# Altium footprint library DC309A.PcbLib: 63 footprints (part 4 of 4)
Each footprint in its own frame and in the unit in brackets; x right, y up, seen from the top. Pads: shape width x height; smd on the part's side, far side on the other; paste and mask are expansions set on the pad; w line width, h text height; cw(c..) or ccw(c..) is an arc to the next point about the centre after c.
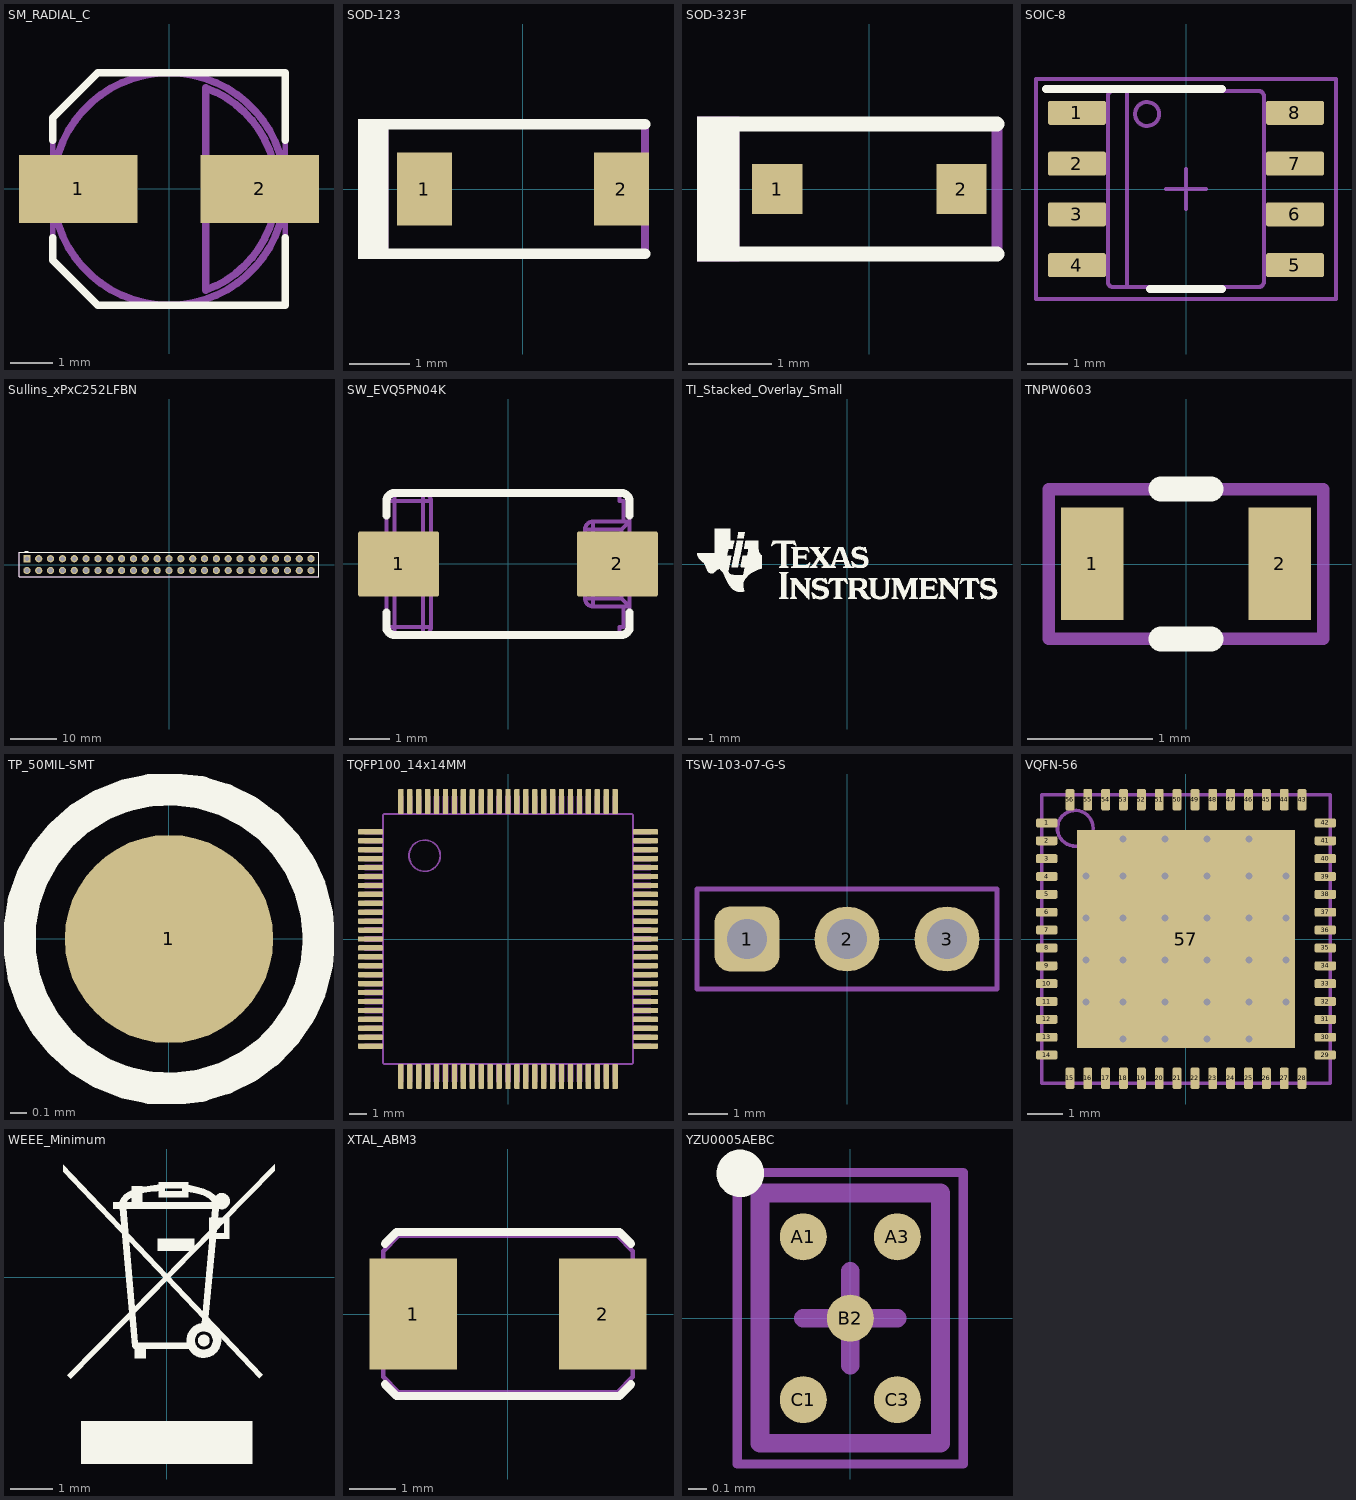
[diagram p3: the footprints below, top view; thin cyan lines are the x and y axes]

## SM_RADIAL_C [mm] "5 x 5.8mm:  Panasonic C"
height 6.1
pads (2):
  rect 2.8x1.6 smd: 1(-2.15,0) 2(2.15,0)
Top Overlay:
  lines w0.178: -2.75,-1.15 -2.75,-1.69 -1.69,-2.75 0,-2.75 2.75,-2.75 2.75,-1.15 ; -2.75,1.15 -2.75,1.69 -1.69,2.75 0,2.75 2.75,2.75 2.75,1.15
Mechanical 5:
  lines w0.127: -2.75,-1.69 -2.75,1.69 -1.69,2.75 0,2.75 2.75,2.75 2.75,-2.75 0,-2.75 -1.69,-2.75 -2.75,-1.69
  text ".Designator" at -1.524,-0.508 h1.02
Mechanical 13:
  circle w0.178: c0,0 r2.75
  lines w0.178: 0.872,-2.395 ccw(c0,0) 0.872,2.395 0.872,-2.395
3D body: height 0.6, standoff 0, extent -2.751,-2.751 2.751,2.751
3D body: height 6.1, standoff 0.6, extent -2.749,-2.749 2.749,2.749
3D body: height 6.1, standoff 6, extent 0.871,-2.396 2.549,2.396

## SOD-123 [mm] "On Semi recommended land pattern"
height 1.35
pads (2):
  rect 0.915x1.22 smd: 1(-1.637,0) 2(1.637,0)
Top Overlay:
  rectangle: -2.743,-1.168 -2.235,1.168
  lines w0.178: -2.413,-1.079 2.032,-1.079 ; -2.413,1.079 2.032,1.079
Mechanical 5:
  rectangle: -2.743,-1.168 -2.235,1.168
  lines w0.127: -2.413,-1.079 2.032,-1.079 2.032,1.079 -2.413,1.079
  text ".Designator" at -1.295,-0.381 h0.76
3D body "SOD-123.stp": height 1.35, standoff 0, extent -1.932,-0.9 1.932,0.9

## SOD-323F [mm] "NXP recommended land pattern"
height 0.8
pads (2):
  rect 0.6x0.6 smd paste+0: 1(-1.1,0) 2(1.1,0)
Top Overlay:
  rectangle: -2.057,-0.864 -1.549,0.864
  lines w0.178: -1.803,-0.775 0.1,-0.775 1.525,-0.775 ; -1.803,0.775 0.1,0.775 1.525,0.775
Mechanical 5:
  rectangle: -2.057,-0.864 -1.549,0.864
  lines w0.127: -1.803,-0.775 0.1,-0.775 1.525,-0.775 1.525,0.775 0.1,0.775 -1.803,0.775
  text ".Designator" at -0.66,-0.347 h0.76
3D body "SOD-323F.stp": height 0.79, standoff -0.08, extent -1.35,-0.675 1.35,0.675

## SOIC-8 [mm] "duplicate of SO-8.  SOIC, 8-Leads, Body 5.0x4.0mm (max), Pitch 1.27mm, IPC Medium Density"
height 1.75
pads (8):
  rrect17% 1.45x0.6 smd: 1(-2.725,1.905) 2(-2.725,0.635) 3(-2.725,-0.635) 4(-2.725,-1.905) 5(2.725,-1.905) 6(2.725,-0.635) 7(2.725,0.635) 8(2.725,1.905)
Top Overlay:
  lines w0.2: -3.5,2.5 0.9,2.5 ; -0.9,-2.5 0.9,-2.5
Mechanical 5:
  circle w0.1: c-0.975,1.875 r0.3
  lines w0.1: -1.475,-2.45 -1.475,2.45 ; -2.375,-2.095 -1.995,-2.095 -1.952,-2.095 -1.952,-1.715 -1.995,-1.715 -2.375,-1.715 ; -2.375,-2.095 -2.589,-2.095 -3.002,-2.095 -3.002,-1.715 -2.589,-1.715 -2.375,-1.715 ; -2.375,-2.095 -2.375,-1.715 ; -2.375,-0.825 -1.995,-0.825 -1.952,-0.825 -1.952,-0.445 -1.995,-0.445 -2.375,-0.445 ; -2.375,-0.825 -2.589,-0.825 -3.002,-0.825 -3.002,-0.445 -2.589,-0.445 -2.375,-0.445 ; -2.375,-0.825 -2.375,-0.445 ; -2.375,0.445 -1.995,0.445 -1.952,0.445 -1.952,0.825 -1.995,0.825 -2.375,0.825 ; -2.375,0.445 -2.589,0.445 -3.002,0.445 -3.002,0.825 -2.589,0.825 -2.375,0.825 ; -2.375,0.445 -2.375,0.825 ; -2.375,1.715 -1.995,1.715 -1.952,1.715 -1.952,2.095 -1.995,2.095 -2.375,2.095 ; -2.375,1.715 -2.589,1.715 -3.002,1.715 -3.002,2.095 -2.589,2.095 -2.375,2.095 ; -2.375,1.715 -2.375,2.095 ; -0.332,-2.45 -1.825,-2.45 -1.826,-2.45 cw(c-1.825,-2.323) -1.952,-2.324 -1.952,-2.323 -1.952,2.323 -1.952,2.324 cw(c-1.825,2.323) -1.826,2.45 -1.825,2.45 -0.332,2.45 ; -0.332,-2.45 -0.182,-2.45 ; -0.332,-2.45 -0.182,-2.45 ; -0.332,2.45 -0.182,2.45 ; -0.332,2.45 -0.182,2.45 ; -0.182,-2.45 0.178,-2.45 ; -0.182,2.45 0.178,2.45 ; 0.178,-2.45 0.328,-2.45 ; 0.178,-2.45 0.328,-2.45 ; 0.178,2.45 0.328,2.45 ; 0.178,2.45 0.328,2.45 ; 0.328,-2.45 1.821,-2.45 1.822,-2.45 ccw(c1.821,-2.323) 1.948,-2.324 1.948,-2.323 1.948,2.323 1.948,2.324 ccw(c1.821,2.323) 1.822,2.45 1.821,2.45 0.328,2.45 ; 2.371,-2.095 2.585,-2.095 2.998,-2.095 2.998,-1.715 2.585,-1.715 2.371,-1.715 ; 2.371,-2.095 1.991,-2.095 1.948,-2.095 1.948,-1.715 1.991,-1.715 2.371,-1.715 ; 2.371,-2.095 2.371,-1.715 ; 2.371,-0.825 2.585,-0.825 2.998,-0.825 2.998,-0.445 2.585,-0.445 2.371,-0.445 ; 2.371,-0.825 1.991,-0.825 1.948,-0.825 1.948,-0.445 1.991,-0.445 2.371,-0.445 ; 2.371,-0.825 2.371,-0.445 ; 2.371,0.445 2.585,0.445 2.998,0.445 2.998,0.825 2.585,0.825 2.371,0.825 ; 2.371,0.445 1.991,0.445 1.948,0.445 1.948,0.825 1.991,0.825 2.371,0.825 ; 2.371,0.445 2.371,0.825 ; 2.371,1.715 2.585,1.715 2.998,1.715 2.998,2.095 2.585,2.095 2.371,2.095 ; 2.371,1.715 1.991,1.715 1.948,1.715 1.948,2.095 1.991,2.095 2.371,2.095 ; 2.371,1.715 2.371,2.095
  text ".Designator" at 0.629,-0.908 h0.89
Mechanical 15:
  lines w0.1: -0.5,0 0.5,0 ; 0,-0.5 0,0.5 ; -3.75,-2.75 3.75,-2.75 3.75,2.75 -3.75,2.75 -3.75,-2.75
3D body "SOIC-8akaD0008AakaM08A.stp": height 1.63, standoff 0, extent -3,-2.45 3,2.45

## Sullins_xPxC252LFBN [mm] "Receptacle, 2.54mm, 25x2, TH"
height 8.65
pads (50):
  rect 1.55x1.55 hole 1.02: 1(-30.48,1.27)
  round 1.55 hole 1.02: 2(-30.48,-1.27) 3(-27.94,1.27) 4(-27.94,-1.27) 5(-25.4,1.27) 6(-25.4,-1.27) 7(-22.86,1.27) 8(-22.86,-1.27) 9(-20.32,1.27) 10(-20.32,-1.27) 11(-17.78,1.27) 12(-17.78,-1.27) 13(-15.24,1.27) 14(-15.24,-1.27) 15(-12.7,1.27) 16(-12.7,-1.27) 17(-10.16,1.27) 18(-10.16,-1.27) 19(-7.62,1.27) 20(-7.62,-1.27) 21(-5.08,1.27) 22(-5.08,-1.27) 23(-2.54,1.27) 24(-2.54,-1.27) 25(0,1.27) 26(0,-1.27) 27(2.54,1.27) 28(2.54,-1.27) 29(5.08,1.27) 30(5.08,-1.27) 31(7.62,1.27) 32(7.62,-1.27) 33(10.16,1.27) 34(10.16,-1.27) 35(12.7,1.27) 36(12.7,-1.27) 37(15.24,1.27) 38(15.24,-1.27) 39(17.78,1.27) 40(17.78,-1.27) 41(20.32,1.27) 42(20.32,-1.27) 43(22.86,1.27) 44(22.86,-1.27) 45(25.4,1.27) 46(25.4,-1.27) 47(27.94,1.27) 48(27.94,-1.27) 49(30.48,1.27) 50(30.48,-1.27)
Top Overlay:
  rectangle: -31,2.614 -30.1,2.899
  lines w0.2: -32.175,-2.615 -32.175,2.615 32.175,2.615 32.175,-2.615 -32.175,-2.615
Mechanical 5:
  lines w0.1: -32.175,-2.615 32.175,-2.615 32.175,2.615 -32.175,2.615 -32.175,-2.615
  text ".Designator" at -1.656,1.27 h1.02
3D body: height 8.65, standoff 0, extent -32.174,-2.614 32.174,2.614
3D body: height 0, standoff -2.5, extent 19.92,1.045 20.72,1.495
3D body: height 0, standoff -2.5, extent 19.92,-1.495 20.72,-1.045
3D body: height 0, standoff -2.5, extent 22.46,-1.495 23.26,-1.045
3D body: height 0, standoff -2.5, extent 22.46,1.045 23.26,1.495
3D body: height 0, standoff -2.5, extent 25,1.045 25.8,1.495
3D body: height 0, standoff -2.5, extent 25,-1.495 25.8,-1.045
3D body: height 0, standoff -2.5, extent 27.54,-1.495 28.34,-1.045
3D body: height 0, standoff -2.5, extent 27.54,1.045 28.34,1.495
3D body: height 0, standoff -2.5, extent 30.08,1.045 30.88,1.495
3D body: height 0, standoff -2.5, extent 30.08,-1.495 30.88,-1.045
3D body: height 0, standoff -2.5, extent 7.22,1.045 8.02,1.495
3D body: height 0, standoff -2.5, extent 7.22,-1.495 8.02,-1.045
3D body: height 0, standoff -2.5, extent 9.76,-1.495 10.56,-1.045
3D body: height 0, standoff -2.5, extent 9.76,1.045 10.56,1.495
3D body: height 0, standoff -2.5, extent 12.3,1.045 13.1,1.495
3D body: height 0, standoff -2.5, extent 12.3,-1.495 13.1,-1.045
3D body: height 0, standoff -2.5, extent 14.84,-1.495 15.64,-1.045
3D body: height 0, standoff -2.5, extent 14.84,1.045 15.64,1.495
3D body: height 0, standoff -2.5, extent 17.38,1.045 18.18,1.495
3D body: height 0, standoff -2.5, extent 17.38,-1.495 18.18,-1.045
3D body: height 0, standoff -2.5, extent -5.48,1.045 -4.68,1.495
3D body: height 0, standoff -2.5, extent -5.48,-1.495 -4.68,-1.045
3D body: height 0, standoff -2.5, extent -2.94,-1.495 -2.14,-1.045
3D body: height 0, standoff -2.5, extent -2.94,1.045 -2.14,1.495
3D body: height 0, standoff -2.5, extent -0.4,1.045 0.4,1.495
3D body: height 0, standoff -2.5, extent -0.4,-1.495 0.4,-1.045
3D body: height 0, standoff -2.5, extent 2.14,-1.495 2.94,-1.045
3D body: height 0, standoff -2.5, extent 2.14,1.045 2.94,1.495
3D body: height 0, standoff -2.5, extent 4.68,1.045 5.48,1.495
3D body: height 0, standoff -2.5, extent 4.68,-1.495 5.48,-1.045
3D body: height 0, standoff -2.5, extent -18.18,1.045 -17.38,1.495
3D body: height 0, standoff -2.5, extent -18.18,-1.495 -17.38,-1.045
3D body: height 0, standoff -2.5, extent -15.64,-1.495 -14.84,-1.045
3D body: height 0, standoff -2.5, extent -15.64,1.045 -14.84,1.495
3D body: height 0, standoff -2.5, extent -13.1,1.045 -12.3,1.495
3D body: height 0, standoff -2.5, extent -13.1,-1.495 -12.3,-1.045
3D body: height 0, standoff -2.5, extent -10.56,-1.495 -9.76,-1.045
3D body: height 0, standoff -2.5, extent -10.56,1.045 -9.76,1.495
3D body: height 0, standoff -2.5, extent -8.02,1.045 -7.22,1.495
3D body: height 0, standoff -2.5, extent -8.02,-1.495 -7.22,-1.045
3D body: height 0, standoff -2.5, extent -20.72,-1.495 -19.92,-1.045
3D body: height 0, standoff -2.5, extent -20.72,1.045 -19.92,1.495
3D body: height 0, standoff -2.5, extent -23.26,1.045 -22.46,1.495
3D body: height 0, standoff -2.5, extent -23.26,-1.495 -22.46,-1.045
3D body: height 0, standoff -2.5, extent -25.8,-1.495 -25,-1.045
3D body: height 0, standoff -2.5, extent -25.8,1.045 -25,1.495
3D body: height 0, standoff -2.5, extent -28.34,1.045 -27.54,1.495
3D body: height 0, standoff -2.5, extent -28.34,-1.495 -27.54,-1.045
3D body: height 0, standoff -2.5, extent -30.88,-1.495 -30.08,-1.045
3D body: height 0, standoff -2.5, extent -30.88,1.045 -30.08,1.495

## SW_EVQ5PN04K [mm] "SMD, 2-Leads, Body 6x3.5mm"
height 4.3
pads (2):
  rrect6% 2x1.6 smd: 1(-2.7,0) 2(2.7,0)
Top Overlay:
  lines w0.2: -3,-1.2 -3,-1.55 ccw(c-2.8,-1.55) -2.8,-1.75 -2.1,-1.75 2.8,-1.75 ccw(c2.8,-1.55) 3,-1.55 3,-1.2 ; -3,1.2 -3,1.55 cw(c-2.8,1.55) -2.8,1.75 -2.1,1.75 2.8,1.75 cw(c2.8,1.55) 3,1.55 3,1.2
Mechanical 5:
  drawing of 476 lines, arcs and shapes, not listed
  text ".Designator" at -0.813,-0.533 h1.7
3D body: height 4.3, standoff 0, extent -3.6,-1.75 3.6,1.75

## TI_Stacked_Overlay_Small [mm]
Top Overlay:
  drawing of 18 lines, arcs and shapes, not listed

## TNPW0603 [mm] "Vishay"
height 0.55
pads (2):
  rect 0.5x0.9 smd: 1(-0.75,0) 2(0.75,0)
Top Overlay:
  lines w0.2: -0.2,-0.6 0.2,-0.6 ; -0.2,0.6 0.2,0.6
Mechanical 5:
  lines w0.1: -1.1,-0.6 1.1,-0.6 1.1,0.6 -1.1,0.6 -1.1,-0.6
  text ".Designator" at 0.991,-1.094 h0.52
3D body: height 0.55, standoff 0, extent 0.501,-0.474 0.85,0.474
3D body: height 0.55, standoff 0, extent -0.499,-0.474 0.499,0.474
3D body: height 0.55, standoff 0, extent -0.849,-0.474 -0.501,0.474

## TP_50MIL-SMT [mm]
height 0.26
pads (1):
  round 1.27 smd paste-0.635: 1(0,0)
Top Overlay:
  circle w0.198: c0,0 r0.914

## TQFP100_14x14MM [mm] "TQFP, 100-Leads, Body 14x14mm, Pitch 0.50mm"
height 1.2
pads (100):
  rrect33% 1.4x0.3 smd: 1(-7.7,6) 2(-7.7,5.5) 3(-7.7,5) 4(-7.7,4.5) 5(-7.7,4) 6(-7.7,3.5) 7(-7.7,3) 8(-7.7,2.5) 9(-7.7,2) 10(-7.7,1.5) 11(-7.7,1) 12(-7.7,0.5) 13(-7.7,0) 14(-7.7,-0.5) 15(-7.7,-1) 16(-7.7,-1.5) 17(-7.7,-2) 18(-7.7,-2.5) 19(-7.7,-3) 20(-7.7,-3.5) 21(-7.7,-4) 22(-7.7,-4.5) 23(-7.7,-5) 24(-7.7,-5.5) 25(-7.7,-6) 51(7.7,-6) 52(7.7,-5.5) 53(7.7,-5) 54(7.7,-4.5) 55(7.7,-4) 56(7.7,-3.5) 57(7.7,-3) 58(7.7,-2.5) 59(7.7,-2) 60(7.7,-1.5) 61(7.7,-1) 62(7.7,-0.5) 63(7.7,0) 64(7.7,0.5) 65(7.7,1) 66(7.7,1.5) 67(7.7,2) 68(7.7,2.5) 69(7.7,3) 70(7.7,3.5) 71(7.7,4) 72(7.7,4.5) 73(7.7,5) 74(7.7,5.5) 75(7.7,6)
  rrect33% 0.3x1.4 smd: 26(-6,-7.7) 27(-5.5,-7.7) 28(-5,-7.7) 29(-4.5,-7.7) 30(-4,-7.7) 31(-3.5,-7.7) 32(-3,-7.7) 33(-2.5,-7.7) 34(-2,-7.7) 35(-1.5,-7.7) 36(-1,-7.7) 37(-0.5,-7.7) 38(0,-7.7) 39(0.5,-7.7) 40(1,-7.7) 41(1.5,-7.7) 42(2,-7.7) 43(2.5,-7.7) 44(3,-7.7) 45(3.5,-7.7) 46(4,-7.7) 47(4.5,-7.7) 48(5,-7.7) 49(5.5,-7.7) 50(6,-7.7) 76(6,7.7) 77(5.5,7.7) 78(5,7.7) 79(4.5,7.7) 80(4,7.7) 81(3.5,7.7) 82(3,7.7) 83(2.5,7.7) 84(2,7.7) 85(1.5,7.7) 86(1,7.7) 87(0.5,7.7) 88(0,7.7) 89(-0.5,7.7) 90(-1,7.7) 91(-1.5,7.7) 92(-2,7.7) 93(-2.5,7.7) 94(-3,7.7) 95(-3.5,7.7) 96(-4,7.7) 97(-4.5,7.7) 98(-5,7.7) 99(-5.5,7.7) 100(-6,7.7)
Mechanical 5:
  drawing of 1637 lines, arcs and shapes, not listed
  text ".Designator" at 0.483,1.067 h1.02
3D body "TQFP_14x14MM.stp": height 1.2, standoff 0, extent -8,-8 8,8

## TSW-103-07-G-S [mm] "Samtec 100mil, 1x3, 230 mil above insulator"
height 8.382
pads (3):
  rrect50% 1.65x1.65 hole 1.016: 1(-2.54,0)
  round 1.65 hole 1.016: 2(0,0) 3(2.54,0)
Mechanical 5:
  lines w0.127: -3.81,-1.27 -3.81,1.27 3.81,1.27 3.81,-1.27 -3.81,-1.27
  text ".Designator" at 1.194,0.406 h1.02
3D body "SamtecTSW-07_3x1.stp": height 8.38, standoff -2.54, extent -3.81,-1.27 3.81,1.27

## VQFN-56 [mm] "VQFN, 56-Leads, Body 8x8mm, Pitch 0.5mm"
height 1
pads (82):
  rrect40% 0.6x0.25 smd: 1(-3.9,3.25) 2(-3.9,2.75) 3(-3.9,2.25) 4(-3.9,1.75) 5(-3.9,1.25) 6(-3.9,0.75) 7(-3.9,0.25) 8(-3.9,-0.25) 9(-3.9,-0.75) 10(-3.9,-1.25) 11(-3.9,-1.75) 12(-3.9,-2.25) 13(-3.9,-2.75) 14(-3.9,-3.25) 29(3.9,-3.25) 30(3.9,-2.75) 31(3.9,-2.25) 32(3.9,-1.75) 33(3.9,-1.25) 34(3.9,-0.75) 35(3.9,-0.25) 36(3.9,0.25) 37(3.9,0.75) 38(3.9,1.25) 39(3.9,1.75) 40(3.9,2.25) 41(3.9,2.75) 42(3.9,3.25)
  rrect40% 0.25x0.6 smd: 15(-3.25,-3.9) 16(-2.75,-3.9) 17(-2.25,-3.9) 18(-1.75,-3.9) 19(-1.25,-3.9) 20(-0.75,-3.9) 21(-0.25,-3.9) 22(0.25,-3.9) 23(0.75,-3.9) 24(1.25,-3.9) 25(1.75,-3.9) 26(2.25,-3.9) 27(2.75,-3.9) 28(3.25,-3.9) 43(3.25,3.9) 44(2.75,3.9) 45(2.25,3.9) 46(1.75,3.9) 47(1.25,3.9) 48(0.75,3.9) 49(0.25,3.9) 50(-0.25,3.9) 51(-0.75,3.9) 52(-1.25,3.9) 53(-1.75,3.9) 54(-2.25,3.9) 55(-2.75,3.9) 56(-3.25,3.9)
  rect 6.1x6.1 smd paste-6.1: 57(0,0)
  rect 0.973x0.973 on Top Paste: ""(-2.346,-2.346) ""(-2.346,-1.173) ""(-2.346,0) ""(-2.346,1.173) ""(-2.346,2.346) ""(-1.173,-2.346) ""(-1.173,-1.173) ""(-1.173,0) ""(-1.173,1.173) ""(-1.173,2.346) ""(0,-2.346) ""(0,-1.173) ""(0,0) ""(0,1.173) ""(0,2.346) ""(1.173,-2.346) ""(1.173,-1.173) ""(1.173,0) ""(1.173,1.173) ""(1.173,2.346) ""(2.346,-2.346) ""(2.346,-1.173) ""(2.346,0) ""(2.346,1.173) ""(2.346,2.346)
via -2.803,0.587 diameter 0.5 hole 0.2
via -2.803,1.76 diameter 0.5 hole 0.2
via -1.759,2.803 diameter 0.5 hole 0.2
via -0.586,2.803 diameter 0.5 hole 0.2
via 0.587,2.803 diameter 0.5 hole 0.2
via 1.76,2.803 diameter 0.5 hole 0.2
via 2.803,1.759 diameter 0.5 hole 0.2
via 2.803,0.586 diameter 0.5 hole 0.2
via 2.803,-1.76 diameter 0.5 hole 0.2
via 2.803,-0.587 diameter 0.5 hole 0.2
via 1.759,-2.803 diameter 0.5 hole 0.2
via 0.586,-2.803 diameter 0.5 hole 0.2
via -0.587,-2.803 diameter 0.5 hole 0.2
via -1.76,-2.803 diameter 0.5 hole 0.2
via -2.803,-1.759 diameter 0.5 hole 0.2
via -2.803,-0.586 diameter 0.5 hole 0.2
via -1.76,-1.759 diameter 0.5 hole 0.2
via -0.587,-1.759 diameter 0.5 hole 0.2
via 0.586,-1.759 diameter 0.5 hole 0.2
via 1.759,-1.759 diameter 0.5 hole 0.2
via 1.759,-0.586 diameter 0.5 hole 0.2
via 1.759,0.587 diameter 0.5 hole 0.2
via 1.759,1.76 diameter 0.5 hole 0.2
via 0.586,1.76 diameter 0.5 hole 0.2
via -0.587,1.76 diameter 0.5 hole 0.2
via -1.76,1.76 diameter 0.5 hole 0.2
via -1.76,0.587 diameter 0.5 hole 0.2
via -1.76,-0.587 diameter 0.5 hole 0.2
via -0.587,-0.587 diameter 0.5 hole 0.2
via 0.587,-0.587 diameter 0.5 hole 0.2
via 0.587,0.587 diameter 0.5 hole 0.2
via -0.587,0.587 diameter 0.5 hole 0.2
Mechanical 5:
  circle w0.1: c-3.1,3.1 r0.5
  lines w0.1: -4.037,-4.037 4.038,-4.037 4.038,4.038 -4.037,4.038 -4.037,-4.037
  text ".Designator" at -4.464,-1.301 h1.52
3D body: height 1, standoff 0, extent -4.037,-4.037 4.038,4.038
3D body: height 1, standoff 1, extent -3.599,2.601 -2.6,3.6

## WEEE_Minimum [mm] "WEEElie bin"
Top Overlay:
  drawing of 23 lines, arcs and shapes, not listed

## XTAL_ABM3 [mm] "Abracon recommended land pattern 12.28.10"
height 1.3
pads (2):
  rect 1.9x2.4 smd: 1(-2.05,0) 2(2.05,0)
Top Overlay:
  lines w0.178: -2.667,-1.524 -2.413,-1.778 0,-1.778 2.413,-1.778 2.667,-1.524 ; -2.667,1.524 -2.413,1.778 0,1.778 2.413,1.778 2.667,1.524
Mechanical 5:
  lines w0.1: -2.7,-1.364 -2.7,1.364 -2.364,1.7 2.364,1.7 2.7,1.364 2.7,-1.364 2.364,-1.7 -2.364,-1.7 -2.7,-1.364
  text ".Designator" at -1.778,-0.508 h1.02
3D body "Abracon_ABM3.stp": height 1.3, standoff 0, extent -2.597,-1.698 2.603,1.702

## YZU0005AEBC [mm] "BGA, 5-Balls, Body 1.332x0.964mm, Pitch 0.25mm"
height 0.63
pads (5):
  round 0.25 smd: A1(-0.25,0.433) A3(0.25,0.433) B2(0,0) C1(-0.25,-0.433) C3(0.25,-0.433)
Top Overlay:
  circle w0.152: c-0.585,0.77 r0.05
Mechanical 5:
  text ".Designator" at -0.213,2.001 h0.28
Mechanical 13:
  lines w0.1: -0.48,-0.665 -0.48,0.665 0.48,0.665 0.48,-0.665 -0.48,-0.665
Mechanical 15:
  lines w0.05: -0.6,-0.775 -0.6,0.775 0.6,0.775 0.6,-0.775 -0.6,-0.775
  lines w0.1: -0.25,0 0.25,0 ; 0,-0.25 0,0.25
3D body: height 0.63, standoff 0.2, extent -0.48,-0.665 0.48,0.665